# EAGLE library part CH340E (library serial_interfaces)
Transceiver USB 2.0 2Mbps MSOP-10 USB ICs RoHS Datasheet <https://www.mpja.com/download/35227cpdata.pdf>
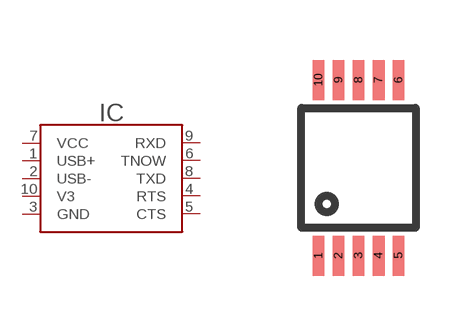
[diagram p23: symbol with the pads of MSOP10; footprint MSOP10]

Designator prefix IC

## CH340E (LCSC#: C99652; MANF: WCH(Jiangsu Qin Heng); MANF#: CH340E)  [MSOP10]
1  USB+
2  USB-
3  GND  pwr
4  RTS  out
5  CTS  in
6  TNOW  out
7  VCC
8  TXD  out
9  RXD  in
10  V3  pwr

## Footprint MSOP10 (pad centres in mm)
Micro Small Outline Package Pitch .5mm https://fscdn.rohm.com/en/techdata_basic/ic/package/msop10_1-e.pdf
smd 0.3 x 1: 1 -1,-2.2; 2 -0.5,-2.2; 3 0,-2.2; 4 0.5,-2.2; 5 1,-2.2; 6 1,2.2; 7 0.5,2.2; 8 0,2.2; 9 -0.5,2.2; 10 -1,2.2